# EAGLE library part CONN_9 (library bschulz)
Genaric 9 terminal header Digikey 2.54_SCREW <https://www.digikey.com/en/products/detail/te-connectivity-amp-connectors/282834-9/1827298>
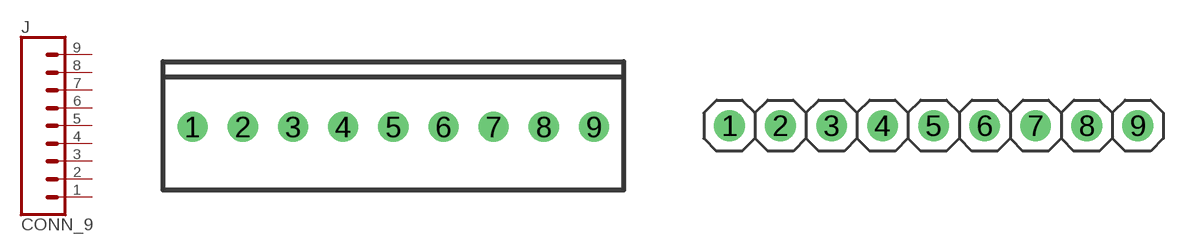
[diagram p148: symbol with the pads of 1X09_SCREW; footprints 1X09_SCREW, 1X09]

Designator prefix J

## CONN_92.54_SCREW (DIGIKEY: A122599-ND; MF: TE; MPN: 282834-9)  [1X09_SCREW]
1  1  pas
2  2  pas
3  3  pas
4  4  pas
5  5  pas
6  6  pas
7  7  pas
8  8  pas
9  9  pas

## CONN_9  [1X09]
Pads as for 1X09_SCREW

## Footprint 1X09_SCREW (pad centres in mm)
PIN HEADER
drill 1.016: 1 -10.16,0; 2 -7.62,0; 3 -5.08,0; 4 -2.54,0; 5 0,0; 6 2.54,0; 7 5.08,0; 8 7.62,0; 9 10.16,0

## Footprint 1X09 (pad centres in mm)
PIN HEADER
drill 1.016: 1 -10.16,0; 2 -7.62,0; 3 -5.08,0; 4 -2.54,0; 5 0,0; 6 2.54,0; 7 5.08,0; 8 7.62,0; 9 10.16,0